# EAGLE library part UCC24624 (library BW-Active)
Dual Channel Synchronous Rectifier Controller for LLC Resonant Converters
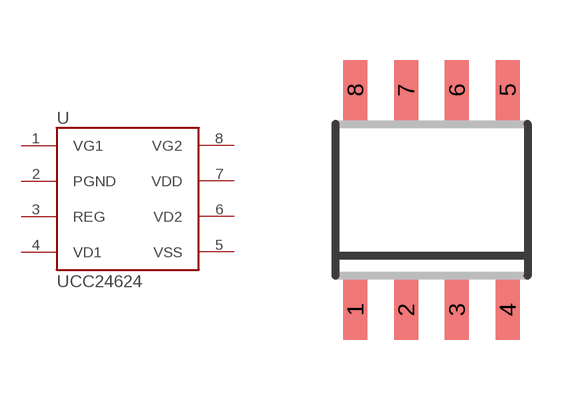
[diagram p0: symbol with the pads of SOIC8; footprint SOIC8]

Designator prefix U

## UCC24624  [SOIC8]
1  VG1
2  PGND
3  REG
4  VD1
5  VSS
6  VD2
7  VDD
8  VG2

## Footprint SOIC8 (pad centres in mm)
SOIC-8 CASE 751-07 Source: http://www.onsemi.com/pub/Collateral/MC34164-D.PDF D (R-PDSO-G8)PLATIC SMALL-OUTLINE PACKAGE Source: http://focus.ti.com/lit/ds/symlink/tlc27l2.pdf
smd 0.6 x 1.5: 1 -1.905,-2.75; 2 -0.635,-2.75; 3 0.635,-2.75; 4 1.905,-2.75; 5 1.905,2.75; 6 0.635,2.75; 7 -0.635,2.75; 8 -1.905,2.75